# EAGLE library part MC34063ABD-TR (library ST_Microelctronics_By_element14_Batch_1)
DC/DC Converter
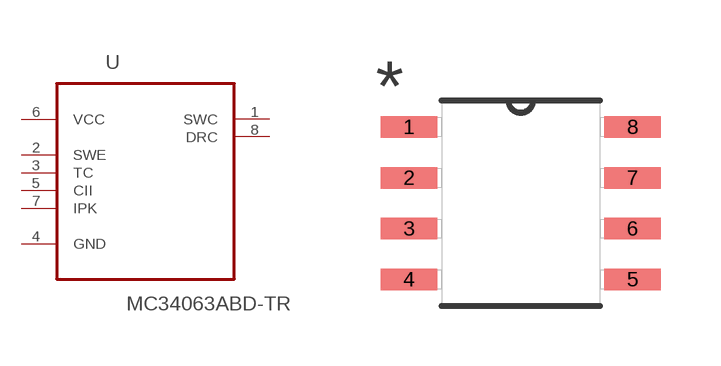
[diagram p279: symbol with the pads of SOIC127P600X175-8N; footprint SOIC127P600X175-8N]

Designator prefix U

## MC34063ABD-TR (MPN: MC34063ABD-TR; OC_FARNELL: 1087205; OC_NEWARK: 56P9006; PACKAGE: SO-8; SUPPLIER: STMICROELECTRONICS)  [SOIC127P600X175-8N]
1  SWC  pas
2  SWE  pas
3  TC  pas
4  GND  pas
5  CII  pas
6  VCC  pwr
7  IPK  pas
8  DRC  pas

## Footprint SOIC127P600X175-8N (pad centres in mm)
smd 1.422 x 0.533: 1 -2.794,1.905; 2 -2.794,0.635; 3 -2.794,-0.635; 4 -2.794,-1.905; 5 2.794,-1.905; 6 2.794,-0.635; 7 2.794,0.635; 8 2.794,1.905